# Altium footprint library Display.PcbLib: 1 footprints
Each footprint in its own frame and in the unit in brackets; x right, y up, seen from the top. Pads: shape width x height; smd on the part's side, far side on the other; paste and mask are expansions set on the pad; w line width, h text height; cw(c..) or ccw(c..) is an arc to the next point about the centre after c.
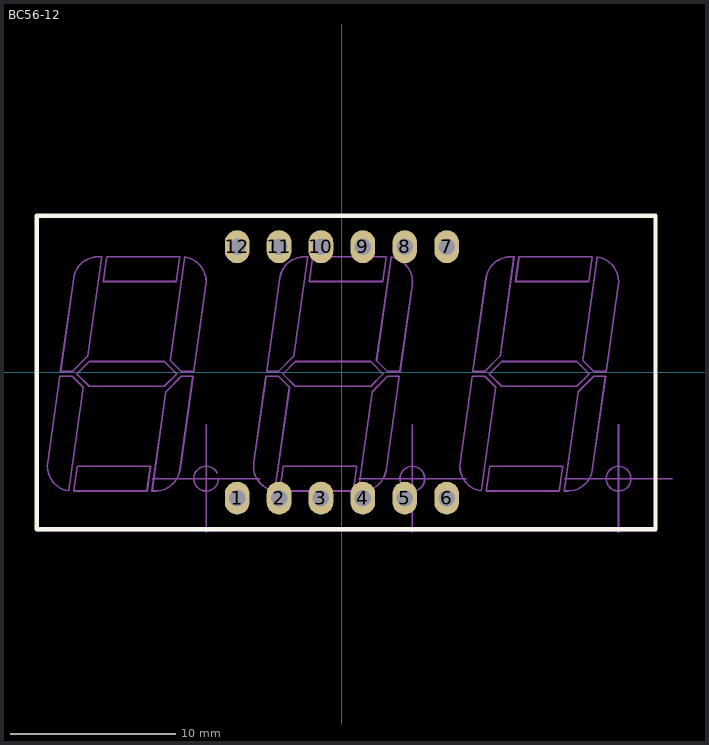
[diagram p0: the footprint, top view; thin cyan lines are the x and y axes]

## BC56-12 [mm]
pads (12):
  oval 1.5x2 hole 1: 1(-6.35,-7.62) 2(-3.81,-7.62) 3(-1.27,-7.62) 4(1.27,-7.62) 5(3.81,-7.62) 6(6.35,-7.62) 7(6.35,7.62) 8(3.81,7.62) 9(1.27,7.62) 10(-1.27,7.62) 11(-3.81,7.62) 12(-6.35,7.62)
Top Overlay:
  lines w0.254: -18.5,-9.5 19,-9.5 19,9.5 -18.5,9.5 -18.5,-9.5
Top Assembly:
  circle w0.1: c16.77,-6.44 r0.75
  circle w0.1: c4.27,-6.44 r0.75
  lines w0.1: -11.48,-6.44 -10.73,-6.44 -8.23,-6.44 ; -8.23,-9.69 -8.23,-8.94 -8.23,-6.44 ; -8.23,-3.19 -8.23,-3.94 -8.23,-6.44 ; -7.559,-6.105 ccw(c-8.23,-6.44) -7.48,-6.44 ; -4.98,-6.44 -5.73,-6.44 -8.23,-6.44 ; 1.02,-6.44 1.77,-6.44 4.27,-6.44 ; 4.27,-9.69 4.27,-8.94 4.27,-6.44 ; 4.27,-3.19 4.27,-3.94 4.27,-6.44 ; 7.52,-6.44 6.77,-6.44 4.27,-6.44 ; 13.52,-6.44 14.27,-6.44 16.77,-6.44 ; 16.77,-9.69 16.77,-8.94 16.77,-6.44 ; 16.77,-3.19 16.77,-3.94 16.77,-6.44 ; 20.02,-6.44 19.27,-6.44 16.77,-6.44 ; -18.552,-9.59 -18.552,9.41 19.048,9.41 19.048,-9.59 -18.552,-9.59 ; -17.836,-5.481 ccw(c-16.351,-5.69) -16.56,-7.175 -15.678,-0.905 -16.343,-0.24 -17.1,-0.24 -17.836,-5.481 ; -17.057,0.06 -16.262,5.719 cw(c-14.777,5.51) -14.777,7.01 -14.566,7.01 -15.412,0.991 -16.343,0.06 -17.057,0.06 ; -16.259,-7.19 -16.048,-5.69 -11.605,-5.69 -11.815,-7.19 -16.259,-7.19 ; -16.069,-0.09 -15.319,0.66 -10.76,0.66 -10.01,-0.09 -10.76,-0.84 -15.319,-0.84 -16.069,-0.09 ; -14.474,5.51 -14.263,7.01 -9.82,7.01 -10.031,5.51 -14.474,5.51 ; -11.512,-7.19 -10.667,-1.171 -9.735,-0.24 -9.021,-0.24 -9.816,-5.899 cw(c-11.302,-5.69) -11.302,-7.19 -11.512,-7.19 ; -10.4,0.725 -9.519,6.995 cw(c-9.728,5.51) -8.242,5.301 -8.979,0.06 -9.735,0.06 -10.4,0.725 ; -5.336,-5.481 ccw(c-3.851,-5.69) -4.06,-7.175 -3.178,-0.905 -3.843,-0.24 -4.6,-0.24 -5.336,-5.481 ; -4.557,0.06 -3.762,5.719 cw(c-2.277,5.51) -2.277,7.01 -2.066,7.01 -2.912,0.991 -3.843,0.06 -4.557,0.06 ; -3.759,-7.19 -3.548,-5.69 0.895,-5.69 0.685,-7.19 -3.759,-7.19 ; -3.569,-0.09 -2.819,0.66 1.74,0.66 2.49,-0.09 1.74,-0.84 -2.819,-0.84 -3.569,-0.09 ; -1.974,5.51 -1.763,7.01 2.68,7.01 2.469,5.51 -1.974,5.51 ; 0.988,-7.19 1.833,-1.171 2.765,-0.24 3.479,-0.24 2.684,-5.899 cw(c1.198,-5.69) 1.198,-7.19 0.988,-7.19 ; 2.1,0.725 2.981,6.995 cw(c2.772,5.51) 4.258,5.301 3.521,0.06 2.765,0.06 2.1,0.725 ; 7.164,-5.481 ccw(c8.649,-5.69) 8.44,-7.175 9.322,-0.905 8.657,-0.24 7.9,-0.24 7.164,-5.481 ; 7.943,0.06 8.738,5.719 cw(c10.223,5.51) 10.223,7.01 10.434,7.01 9.588,0.991 8.657,0.06 7.943,0.06 ; 8.741,-7.19 8.952,-5.69 13.395,-5.69 13.185,-7.19 8.741,-7.19 ; 8.931,-0.09 9.681,0.66 14.24,0.66 14.99,-0.09 14.24,-0.84 9.681,-0.84 8.931,-0.09 ; 10.526,5.51 10.737,7.01 15.18,7.01 14.969,5.51 10.526,5.51 ; 13.488,-7.19 14.333,-1.171 15.265,-0.24 15.979,-0.24 15.184,-5.899 cw(c13.698,-5.69) 13.698,-7.19 13.488,-7.19 ; 14.6,0.725 15.481,6.995 cw(c15.272,5.51) 16.758,5.301 16.021,0.06 15.265,0.06 14.6,0.725
3D body "end-el-san Co Ltd-King Bright BX56-12A.step": height 8, standoff -4.1, extent -18.53,-9.44 19.07,9.56